# Altium footprint library semicon-smd-ipc.PCBLIB: 11 footprints
Each footprint in its own frame and in the unit in brackets; x right, y up, seen from the top. Pads: shape width x height; smd on the part's side, far side on the other; paste and mask are expansions set on the pad; w line width, h text height; cw(c..) or ccw(c..) is an arc to the next point about the centre after c.
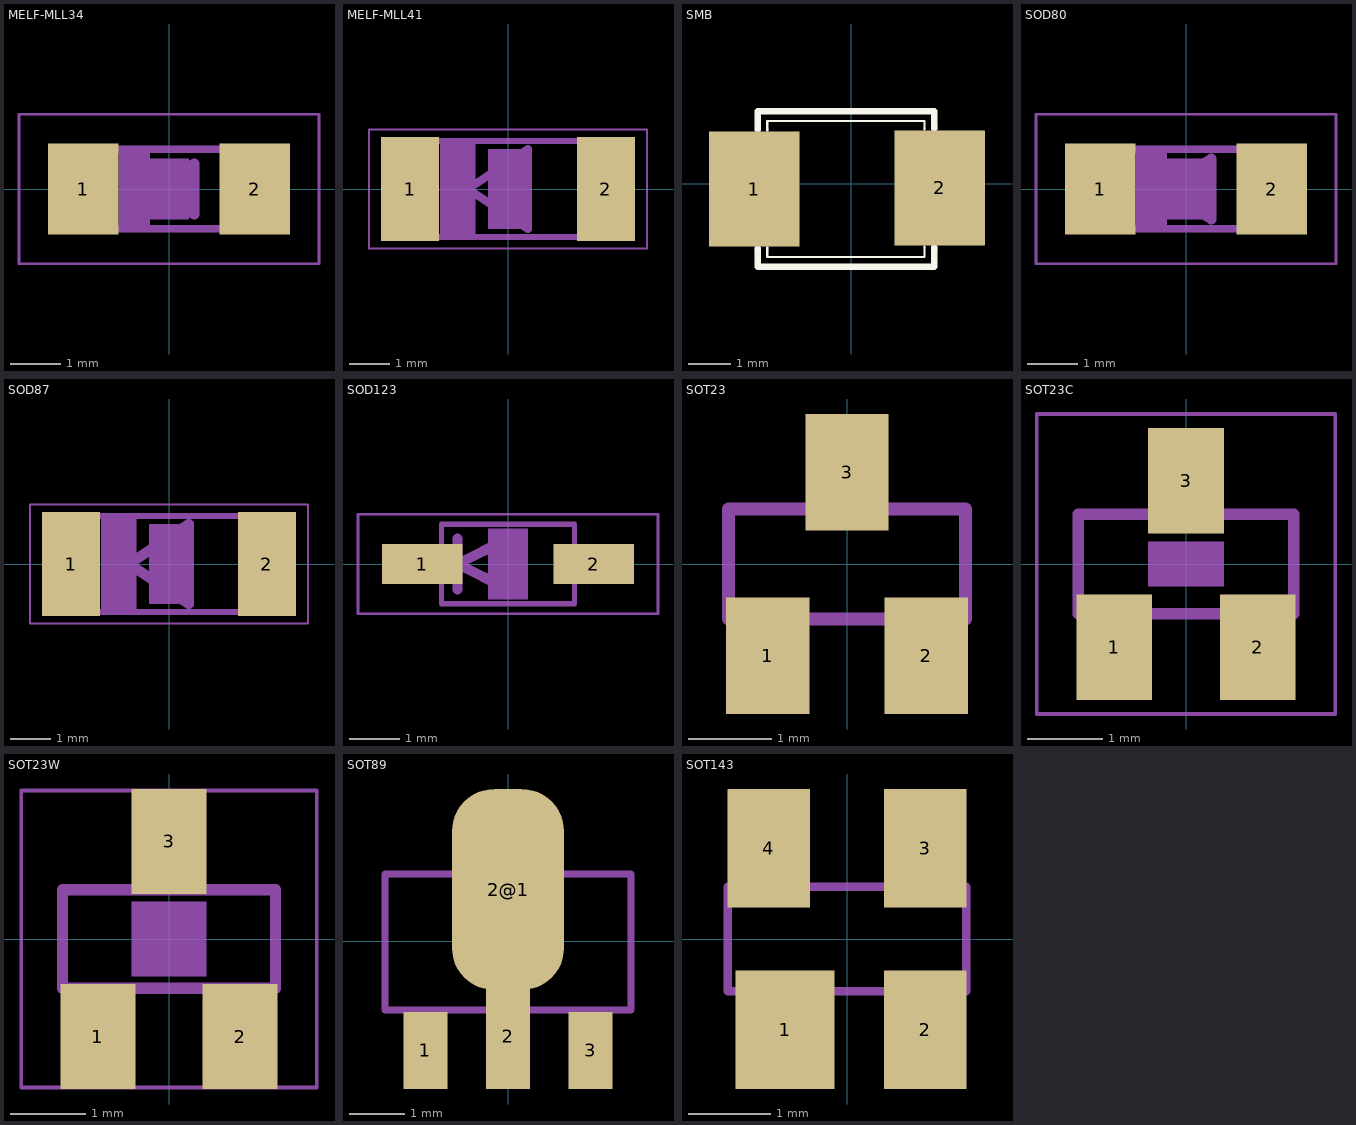
[diagram p0: the footprints below, top view; thin cyan lines are the x and y axes]

## MELF-MLL34 [mm]
pads (2):
  rect 1.4x1.8 smd: 1(-1.7,0) 2(1.7,0)
Mechanical 6:
  rectangle: -0.5,-0.6 0.4,0.6
Mechanical 16:
  rectangle: -1.854,-0.864 -1.295,0.864
  rectangle: 1.295,-0.864 1.854,0.864
  rectangle: -0.991,-0.787 -0.381,0.787
  lines w0.152: -1.321,-0.787 1.321,-0.787 ; -1.321,0.787 1.321,0.787
  lines w0.203: -0.5,0 0.5,0.5 0.5,-0.5 -0.5,0
Mechanical 27:
  lines w0.051: -2.973,-1.483 2.973,-1.483 2.973,1.483 -2.973,1.483 -2.973,-1.483

## MELF-MLL41 [mm]
pads (2):
  rect 1.45x2.6 smd: 1(-2.445,0) 2(2.445,0)
Mechanical 6:
  rectangle: -0.5,-1 0.5,1
Mechanical 16:
  rectangle: 2.057,-1.27 2.565,1.27
  rectangle: -2.616,-1.27 -2.108,1.27
  rectangle: -1.702,-1.194 -0.813,1.194
  lines w0.152: -2.159,1.194 2.083,1.194 ; -2.134,-1.194 2.083,-1.194
  lines w0.203: -1,0 0.5,1 0.5,-1 -1,0
Mechanical 27:
  lines w0.051: -3.473,-1.483 3.473,-1.483 3.473,1.483 -3.473,1.483 -3.473,-1.483

## SMB [mil]
pads (2):
  rect 85x108 smd: 1(-91,-5) 2(83,-4)
Top Overlay:
  lines w2: -79,-60 -79,-69 69,-69 69,-59 ; -79,50 -79,59 69,59 69,51
  lines w6: -88,-61 -88,-78 78,-78 78,-60 ; -88,51 -88,68 78,68 78,52
Mechanical 16:
  rectangle: 80,-45 103,35
  rectangle: -113,-45 -90,35
  lines w2: -79,-62 -79,-31 ; -79,21 -79,52 ; 69,-60 69,52
  lines w6: -89,-32 ccw(c-89,-5) -89,22 ; -88,-61 -88,-32 ; -88,22 -88,51 ; 78,-61 78,53

## SOD80 [mm]
pads (2):
  rect 1.4x1.8 smd: 1(-1.7,0) 2(1.7,0)
Mechanical 6:
  rectangle: -0.4,-0.6 0.4,0.6
Mechanical 16:
  rectangle: -1.854,-0.864 -1.295,0.864
  rectangle: 1.295,-0.864 1.854,0.864
  rectangle: -0.991,-0.787 -0.381,0.787
  lines w0.152: -1.321,-0.787 1.321,-0.787 ; -1.321,0.787 1.321,0.787
  lines w0.203: -0.5,0 0.5,0.6 0.5,-0.6 -0.5,0
Mechanical 27:
  lines w0.051: -2.973,-1.483 2.973,-1.483 2.973,1.483 -2.973,1.483 -2.973,-1.483

## SOD87 [mm]
pads (2):
  rect 1.45x2.6 smd: 1(-2.445,0) 2(2.445,0)
Mechanical 6:
  rectangle: -0.5,-1 0.5,1
Mechanical 16:
  rectangle: 2.057,-1.27 2.565,1.27
  rectangle: -2.616,-1.27 -2.108,1.27
  rectangle: -1.702,-1.194 -0.813,1.194
  lines w0.152: -2.159,1.194 2.083,1.194 ; -2.134,-1.194 2.083,-1.194
  lines w0.254: -1,0 0.5,1 0.5,-1 -1,0
Mechanical 27:
  lines w0.051: -3.473,-1.483 3.473,-1.483 3.473,1.483 -3.473,1.483 -3.473,-1.483

## SOD123 [mil]
pads (2):
  rect 62.99x31.5 smd: 1(-66.93,0) 2(66.93,0)
Mechanical 6:
  rectangle: -15.75,-27.56 15.75,27.56
Mechanical 16:
  rectangle: -77,-12 -54,12
  rectangle: 54,-12 77,12
  lines w4: -52.01,-30.98 52.01,-30.98 52.01,30.98 -52.01,30.98 -52.01,-30.98
  lines w8: -39.37,-19.69 -39.37,0 ; -39.37,19.69 -39.37,0 ; -39.37,0 0,19.69 0,-19.69 -39.37,0
Mechanical 27:
  lines w2: -117.05,-38.7 117.05,-38.7 117.05,38.7 -117.05,38.7 -117.05,-38.7

## SOT23 [mm]
pads (3):
  rect 1x1.4 smd: 1(-0.95,-1.1) 2(0.95,-1.1) 3(0,1.1)
Mechanical 16:
  rectangle: -0.229,0.711 0.229,1.295
  rectangle: 0.711,-1.295 1.168,-0.711
  rectangle: -1.168,-1.295 -0.711,-0.711
  lines w0.152: -1.422,-0.66 1.422,-0.66 1.422,0.66 -1.422,0.66 -1.422,-0.66

## SOT23C [mm]
pads (3):
  rect 1x1.4 smd: 1(-0.95,-1.1) 2(0.95,-1.1) 3(0,1.1)
Mechanical 6:
  rectangle: -0.5,-0.3 0.5,0.3
Mechanical 16:
  rectangle: -0.229,0.711 0.229,1.295
  rectangle: 0.711,-1.295 1.168,-0.711
  rectangle: -1.168,-1.295 -0.711,-0.711
  lines w0.152: -1.422,-0.66 1.422,-0.66 1.422,0.66 -1.422,0.66 -1.422,-0.66
Mechanical 27:
  lines w0.051: -1.973,-1.983 1.973,-1.983 1.973,1.983 -1.973,1.983 -1.973,-1.983

## SOT23W [mm]
pads (3):
  rect 1x1.4 smd: 1(-0.95,-1.303) 2(0.95,-1.303) 3(0,1.303)
Mechanical 6:
  rectangle: -0.5,-0.5 0.5,0.5
Mechanical 16:
  rectangle: -0.229,0.711 0.229,1.295
  rectangle: 0.711,-1.295 1.168,-0.711
  rectangle: -1.168,-1.295 -0.711,-0.711
  lines w0.152: -1.422,-0.66 1.422,-0.66 1.422,0.66 -1.422,0.66 -1.422,-0.66
Mechanical 27:
  lines w0.051: -1.973,-1.983 1.973,-1.983 1.973,1.983 -1.973,1.983 -1.973,-1.983

## SOT89 [mil]
pads (4):
  rect 31.5x55.12 smd: 1(-59.02,-77.99) 3(59.02,-77.99)
  rect 31.5x74.8 smd: 2(0,-67.99)
  rrect75% 80x143.7 smd: 2@1(0,37.01)
Mechanical 16:
  rectangle: -68,-83 -50,-50
  rectangle: 50,-83 68,-50
  rectangle: -11,-83 11,-50
  region: 0,0 10,0 10,10 0,10
  lines w5: -87.99,-49.02 87.99,-49.02 87.99,47.99 -87.99,47.99 -87.99,-49.02
  lines w7.87: -31,51 31,51 31,62 14,79 -14,79 -31,62 -31,51

## SOT143 [mm]
pads (4):
  rect 1.2x1.44 smd: 1(-0.75,-1.1)
  rect 1x1.44 smd: 2(0.95,-1.1) 3(0.95,1.1) 4(-0.95,1.1)
Mechanical 16:
  rectangle: 0.737,-1.321 1.194,-0.635
  rectangle: 0.711,0.635 1.168,1.321
  rectangle: -1.143,0.635 -0.686,1.321
  rectangle: -1.194,-1.321 -0.305,-0.635
  lines w0.1: -1.448,-0.635 1.448,-0.635 1.448,0.635 -1.448,0.635 -1.448,-0.635